# Altium footprint library DIODES.PcbLib: 9 footprints
Each footprint in its own frame and in the unit in brackets; x right, y up, seen from the top. Pads: shape width x height; smd on the part's side, far side on the other; paste and mask are expansions set on the pad; w line width, h text height; cw(c..) or ccw(c..) is an arc to the next point about the centre after c.
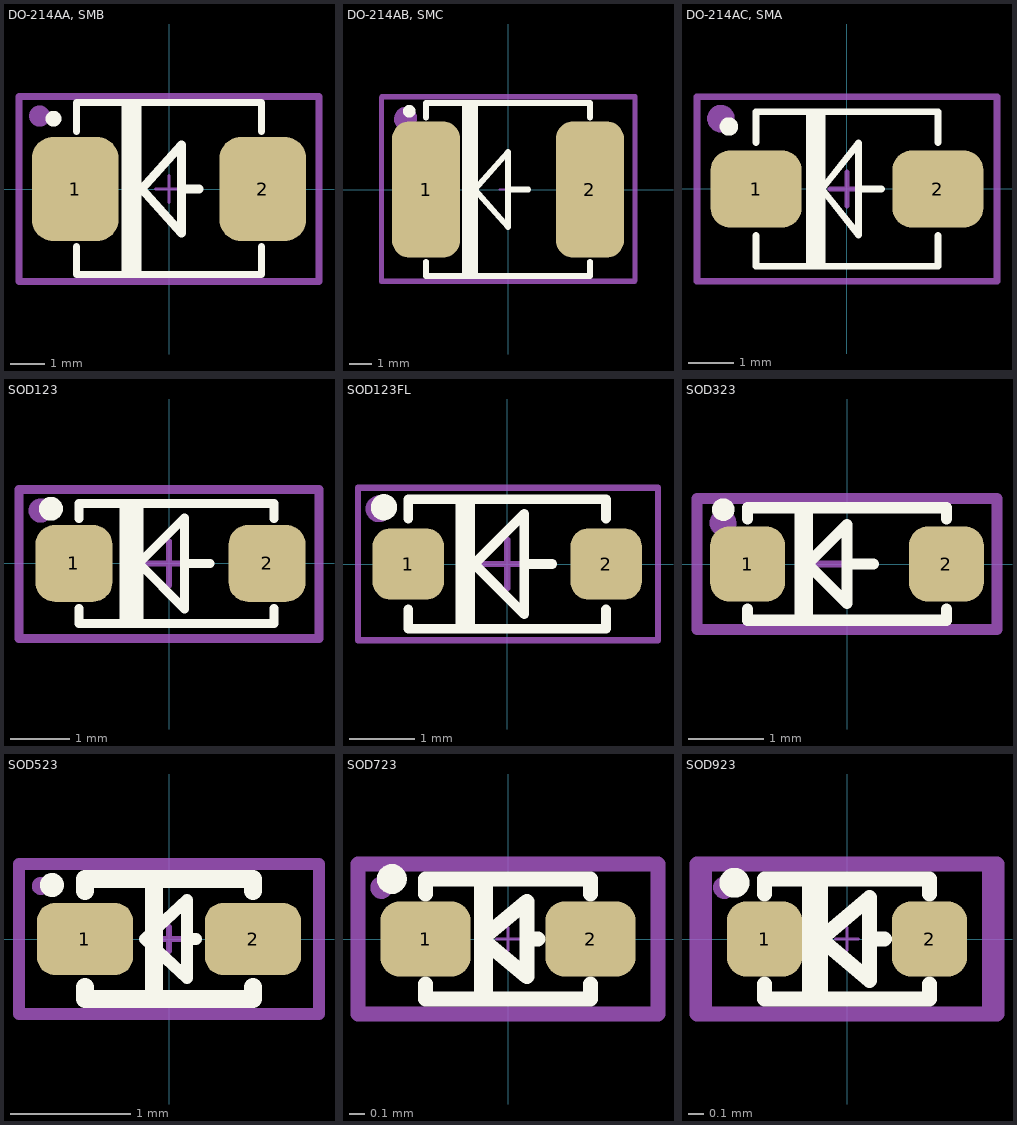
[diagram p0: the footprints below, top view; thin cyan lines are the x and y axes]

## DO-214AA, SMB [mm]
pads (2):
  rrect50% 2.5x3 smd: 1(-2.7,0) 2(2.7,0)
Top Overlay:
  lines w0.203: -2.667,-1.651 -2.667,-2.464 2.54,-2.464 2.667,-2.464 2.667,-1.651 ; -2.667,1.651 -2.667,2.489 2.667,2.489 2.667,1.651 ; -1.27,-2.337 -1.27,2.362 ; -1.143,2.489 -1.143,-2.286 -1.016,-2.413 -1.016,2.362 ; -0.889,-2.337 -0.889,2.362
  lines w0.254: 0.356,0 0.864,0 ; -0.787,0 0.356,-1.27 0.356,1.27 -0.787,0
  lines w0.3: -3.251,2.034 ccw(c-3.325,2.025) -3.25,2.025
Mechanical 15:
  circle w0.3: c-3.725,2.1 r0.152
  lines w0.1: -0.375,0 0.375,0 ; 0,-0.375 0,0.375
  lines w0.2: -4.318,-2.667 4.318,-2.667 4.318,2.667 -4.318,2.667 -4.318,-2.667
Mechanical 27:
  circle w0.3: c-3.725,2.1 r0.152
  lines w0.2: -4.318,-2.667 -4.318,2.667 4.318,2.667 4.318,-2.667 -4.318,-2.667
  text "'.Designator'" at -2.9,-1.6 h5
3D body "User Library-DIOM5539X24.STEP": height 2.45, standoff 0.03, extent -2.75,-1.95 2.75,1.95

## DO-214AB, SMC [mm]
pads (2):
  rrect50% 3x6 smd: 1(-3.607,0) 2(3.607,0)
Top Overlay:
  lines w0.203: -1.93,-3.81 -1.93,3.785 -1.905,3.81 ; -1.753,3.81 -1.753,-3.708 -1.651,-3.81 -1.6,-3.759 -1.6,3.81 ; -1.422,-3.759 -1.422,3.81
  lines w0.254: -3.607,-3.175 -3.607,-3.81 3.607,-3.81 3.607,-3.175 ; -3.607,3.175 -3.607,3.81 3.607,3.81 3.607,3.175 ; 0,0 0.889,0 ; -1.473,0 0,-1.651 0,1.651 -1.473,0
  lines w0.4: -4.276,3.459 ccw(c-4.35,3.45) -4.275,3.45
Mechanical 15:
  lines w0.1: -0.375,0 0.375,0 ; 0,-0.375 0,0.375
  lines w0.203: -5.563,-4.014 -5.563,4.114 5.613,4.114 5.613,-4.014 -5.563,-4.014
  lines w0.5: -4.263,3.218 ccw(c-4.5,3.15) -4.256,3.183
Mechanical 27:
  lines w0.203: -5.588,-4.064 5.588,-4.064 5.588,4.064 -5.588,4.064 -5.588,-4.064
  lines w0.5: -4.288,3.168 ccw(c-4.525,3.1) -4.281,3.133
  text "'.Designator'" at -3.5,-1.9 h6
3D body "User Library-DIOM8261X24.step": height 2.4, standoff 0.03, extent -4.065,-3.05 4.065,3.05

## DO-214AC, SMA [mm]
pads (2):
  rrect50% 2x1.7 smd: 1(-2,0) 2(2,0)
Top Overlay:
  lines w0.15: -2,-1.025 -2,-1.7 2,-1.7 2,-1.025 ; -2,1.025 -2,1.7 2,1.7 2,1.025 ; -0.825,-1.7 -0.825,1.7 ; -0.55,-1.7 -0.55,1.7 ; 0.254,0 0.762,0 ; -0.675,-1.7 -0.675,1.7 -0.675,-1.7 ; -0.55,0 0.254,1.016 0.254,-1.016 -0.55,0
  lines w0.254: -2.526,1.384 ccw(c-2.6,1.375) -2.525,1.375
Mechanical 15:
  circle w0.3: c-2.775,1.55 r0.152
  lines w0.1: -0.375,0 0.375,0 ; 0,-0.375 0,0.375
  lines w0.15: -3.302,-2.032 3.302,-2.032 3.302,2.032 -3.302,2.032 -3.302,-2.032
Mechanical 27:
  circle w0.3: c-2.775,1.55 r0.152
  lines w0.15: -3.302,-2.032 -3.302,2.032 3.302,2.032 3.302,-2.032 -3.302,-2.032
  text "'.Designator'" at -2.4,-1.2 h4
3D body "User Library-DIOM5528X26.STEP": height 2.6, standoff 0.03, extent -2.735,-1.4 2.765,1.4

## SOD123 [mm]
pads (2):
  rrect50% 1.3x1.3 smd: 1(-1.61,0) 2(1.66,0)
Top Overlay:
  lines w0.15: -1.524,-0.762 -1.524,-1.016 1.778,-1.016 1.778,-0.762 ; -1.524,0.762 -1.524,1.016 1.778,1.016 1.778,0.762 ; -0.762,-1.016 -0.762,1.016 ; -0.635,-1.016 -0.635,1.016 ; -0.508,-1.016 -0.508,1.016 ; 0.693,0 0.261,0 ; 0.261,0 0.261,-0.769 -0.508,0 0.261,0.769 0.261,0
  lines w0.254: -1.925,0.925 cw(c-2,0.925) -1.926,0.934
Mechanical 15:
  lines w0.1: -0.375,0 0.375,0 ; 0,-0.375 0,0.375
  lines w0.15: -2.54,-1.27 -2.54,1.25 2.54,1.25 2.54,-1.27 -2.54,-1.27
  lines w0.25: -2.1,0.925 ccw(c-2.173,0.896) -2.094,0.896
Mechanical 27:
  lines w0.15: -2.54,-1.27 2.54,-1.27 2.54,1.25 -2.54,1.25 -2.54,-1.27
  lines w0.25: -2.1,0.925 ccw(c-2.173,0.896) -2.094,0.896
  text "'.Designator'" at -1.7,-1 h3
3D body "User Library-SOD-123_DiodesInc.STEP": height 1.43, standoff -0.02, extent -1.921,-0.85 1.929,0.85

## SOD123FL [mm]
pads (2):
  rrect50% 1.1x1.1 smd: 1(-1.525,0) 2(1.525,0)
Top Overlay:
  lines w0.15: -1.525,-0.7 -1.525,-1 1.525,-1 1.525,-0.7 ; -1.525,0.7 -1.525,1 1.525,1 1.525,0.7 ; -0.725,-1 -0.725,1 ; -0.575,-1 -0.575,1 ; 0.693,0 0.261,0 ; 0.261,0 0.261,0.769 -0.508,0 0.261,-0.769 0.261,0
  lines w0.254: -1.825,0.875 cw(c-1.9,0.875) -1.826,0.884
Mechanical 15:
  lines w0.1: -0.375,0 0.375,0 ; 0,-0.375 0,0.375 ; -2.3,-1.175 2.325,-1.175 2.325,1.175 -2.3,1.175 -2.3,-1.175
  lines w0.25: -1.906,0.879 ccw(c-1.979,0.85) -1.9,0.85
Mechanical 27:
  lines w0.1: -2.3,-1.175 -2.3,1.175 2.325,1.175 2.325,-1.175 -2.3,-1.175
  lines w0.25: -1.906,0.879 ccw(c-1.979,0.85) -1.9,0.85
  text "'.Designator'" at -1.7,-1 h3
3D body "User Library-SOD-123FL CASE 498.step": height 0.95, standoff 0, extent -1.8,-0.825 1.8,0.825

## SOD323 [mm]
pads (2):
  rrect50% 1x1 smd: 1(-1.325,0) 2(1.325,0)
Top Overlay:
  lines w0.15: -1.576,0.734 ccw(c-1.65,0.725) -1.575,0.725 ; -1.325,-0.6 -1.325,-0.75 1.325,-0.75 1.325,-0.6 ; -1.325,0.6 -1.325,0.75 1.325,0.75 1.325,0.6 ; -0.625,-0.725 -0.625,-0.6 ; 0,0 0.35,0 ; -0.625,-0.6 -0.625,0.75 -0.525,0.65 -0.525,-0.7 -0.625,-0.6 ; -0.525,0 0,-0.525 0,0.525 -0.525,0
Mechanical 15:
  lines w0.1: -0.375,0 0.375,0 ; 0,-0.375 0,0.375
  lines w0.15: -2,-0.875 2,-0.875 2,0.875 1.975,0.875 -2,0.875 -2,-0.875
  lines w0.2: -1.581,0.579 ccw(c-1.654,0.55) -1.575,0.55
Mechanical 27:
  lines w0.15: -2,-0.875 -2,0.875 1.975,0.875 2,0.875 2,-0.875 -2,-0.875
  lines w0.2: -1.581,0.579 ccw(c-1.654,0.55) -1.575,0.55
  text "'.Designator'" at -1.1,-0.6 h2
3D body "User Library-SOD2513X11.step": height 1.1, standoff 0, extent -1.35,-0.625 1.35,0.625

## SOD523 [mm]
pads (2):
  rrect50% 0.8x0.6 smd: 1(-0.7,0) 2(0.7,0)
Top Overlay:
  circle w0.1: c-0.975,0.45 r0.05
  lines w0.1: 0.15,0 0.225,0 ; -0.2,0 0.15,0.325 0.15,-0.325 -0.2,0
  lines w0.15: -0.7,-0.4 -0.7,-0.5 0.7,-0.5 0.7,-0.4 ; -0.7,0.4 -0.7,0.5 0.7,0.5 0.7,0.4 ; -0.125,-0.5 -0.125,0.5
Mechanical 15:
  lines w0.05: -0.1,0 0.1,0 ; 0,-0.1 0,0.1
  lines w0.1: -1.05,0.425 cw(c-1.068,0.443) -1.047,0.457 ; -1.25,-0.625 -1.25,0.625 1.25,0.625 1.25,-0.625 -1.25,-0.625
Mechanical 27:
  lines w0.1: -1.05,0.425 cw(c-1.068,0.443) -1.047,0.457 ; -1.25,-0.625 1.25,-0.625 1.25,0.625 -1.25,0.625 -1.25,-0.625
  text "'.Designator'" at -0.925,-0.5 h1.6
3D body "User Library-SOD523-1 (1).step": height 0.7, standoff 0, extent -0.8,-0.399 0.8,0.399

## SOD723 [mm]
pads (2):
  rrect50% 0.6x0.5 smd: 1(-0.55,0) 2(0.55,0)
Top Overlay:
  circle w0.1: c-0.775,0.4 r0.05
  lines w0.1: -0.55,-0.3 -0.55,-0.4 0.55,-0.4 0.55,-0.3 ; -0.55,0.3 -0.55,0.4 0.55,0.4 0.55,0.3 ; 0.125,0 0.2,0 ; -0.175,-0.4 -0.15,-0.4 ; -0.175,-0.4 -0.15,-0.4 ; -0.175,-0.4 -0.175,0.4 -0.15,0.4 -0.15,-0.4 ; -0.175,0 0.125,-0.25 0.125,0.25 -0.175,0
Mechanical 15:
  lines w0.02: -0.075,0 0.075,0 ; 0,-0.075 0,0.075
  lines w0.1: -0.825,0.325 cw(c-0.843,0.343) -0.822,0.357 ; -1,-0.5 1,-0.5 1,0.5 -1,0.5 -1,-0.5
Mechanical 27:
  lines w0.1: -0.825,0.325 cw(c-0.843,0.343) -0.822,0.357 ; -1,-0.5 -1,0.5 1,0.5 1,-0.5 -1,-0.5
  text "'.Designator'" at -0.75,-0.425 h1.3
3D body "27945.stp": height 0.49, standoff -0.01, extent -0.7,-0.3 0.7,0.3

## SOD923 [mm]
pads (2):
  rrect50% 0.5x0.5 smd: 1(-0.55,0) 2(0.55,0)
Top Overlay:
  circle w0.1: c-0.75,0.375 r0.05
  lines w0.1: -0.55,-0.3 -0.55,-0.4 0.55,-0.4 0.55,-0.3 ; -0.55,0.3 -0.55,0.4 0.55,0.4 0.55,0.3 ; -0.25,-0.4 -0.25,0.4 ; -0.175,-0.4 -0.175,0.4 ; 0.15,0 0.25,0 ; -0.175,0 0.15,-0.275 0.15,0.275 -0.175,0
Mechanical 15:
  lines w0.02: -0.075,0 0.075,0 ; 0,-0.075 0,0.075
  lines w0.1: -0.8,0.325 cw(c-0.818,0.343) -0.797,0.357 ; -1,-0.5 -1,0.5 1,0.5 1,-0.5 -1,-0.5 ; -0.95,-0.5 0.95,-0.5 0.95,0.5 -0.95,0.5 -0.95,-0.5
Mechanical 27:
  lines w0.1: -0.8,0.325 cw(c-0.818,0.343) -0.797,0.357 ; -1,-0.5 1,-0.5 1,0.5 -1,0.5 -1,-0.5 ; -0.95,-0.5 -0.95,0.5 0.95,0.5 0.95,-0.5 -0.95,-0.5
  text "'.Designator'" at -0.725,-0.425 h1.3
3D body "User Library-DIODE_SOD-923 (1).step": height 0.43, standoff 0, extent -0.525,-0.325 0.525,0.325